# Altium schematic symbol library N-MOSFET-8L.Schlib: 1 symbol
Pins are listed as number, name and electrical type; pins without a type are passive.

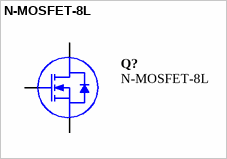
[diagram p0: symbol N-MOSFET-8L]

## N-MOSFET-8L
designator Q?
BSZ040N04LS G, Logic Level Power N-Ch MOSFET 40V/40A, 4.0 mOhm, 3800pF, 64nC, 3.4mm X 3.4mm Shrink SO8
pins: 1 S, 2 S, 3 S, 4 G, 5 D, 6 D, 7 D, 8 D